# EAGLE library part SLIDE-SWITCH-1201M2S3AQE2 (library slide-switch-1201M2S3AQE2)
1201M2S3AQE2 - Slide switch C&K Technologies
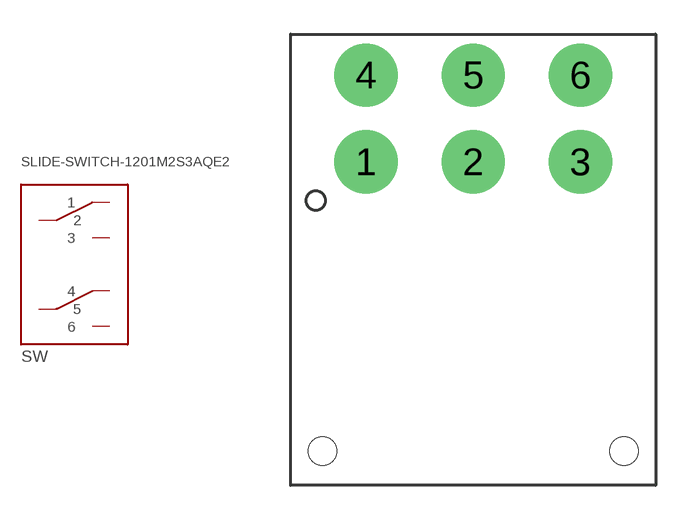
[diagram p0: symbol with the pads of HORIZONTAL-DPDT; footprint HORIZONTAL-DPDT]

Designator prefix SW

## SLIDE-SWITCH-1201M2S3AQE2  [HORIZONTAL-DPDT]
1  1  nc
2  2  in
3  3  out
4  4  nc
5  5  in
6  6  out

## Footprint HORIZONTAL-DPDT (pad centres in mm)
C&K Components slide switch
drill 1.85: 1 -4.7,-1.905; 2 0,-1.905; 3 4.7,-1.905; 4 -4.7,1.905; 5 0,1.905; 6 4.7,1.905
hole 1.24 at 6.605,-14.605
hole 1.24 at -6.605,-14.605